# Altium schematic symbol library Lab10.SchLib: 4 symbols
Pins are listed as number, name and electrical type; pins without a type are passive.

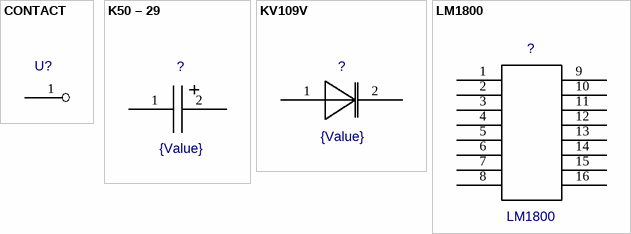
[diagram p0: symbols CONTACT to LM1800]

## CONTACT
designator U?  (value not drawn)
Value: *
footprint CONTACT
pins: 1

## K50 – 29
designator ?  value {Value}  (hidden comment: *)
footprint A58
pins: 1, 2

## KV109V
designator ?  value {Value}  (hidden comment: *)
footprint A46_KV109V(Primary)
pins: 1 0, 2 0

## LM1800
designator ?
Value: *
footprint A39
pins: 1, 2, 3, 4, 5, 6, 7, 8, 9, 10, 11, 12, 13, 14, 15, 16